# EAGLE library part IR2101 (library svBGC)
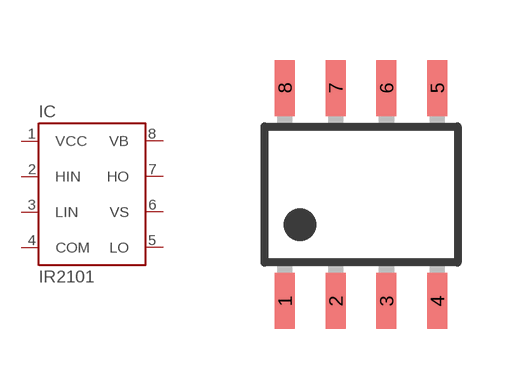
[diagram p6: symbol with the pads of SOIC-8; footprint SOIC-8]

Designator prefix IC

## IR2101SPBF  [SOIC-8]
1  VCC  in
2  HIN  in
3  LIN  in
4  COM  pwr
5  LO  out
6  VS  in
7  HO  out
8  VB  in

## Footprint SOIC-8 (pad centres in mm)
SOIC-8 150 mil Package
smd 0.5 x 1.4: 1 -1.905,-2.667; 2 -0.635,-2.667; 3 0.635,-2.667; 4 1.905,-2.667; 5 1.905,2.667; 6 0.635,2.667; 7 -0.635,2.667; 8 -1.905,2.667